# EAGLE library part REGULATOR:ADP3334(1.2V-ADJ,500MA) (library QuantumOptics)
ADR3334, Analog Devices, LDO regulator, 1.178V and up, low Iq, shutdown, SO-8 MSOP-8 etc. http://www.analog.com/UploadedFiles/Data_Sheets/123303984ADP3334_b.pdf
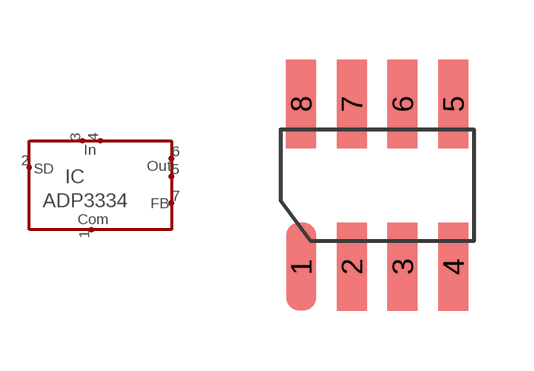
[diagram p44: symbol with the pads of SOIC-8; footprint SOIC-8]

Designator prefix IC

## REGULATOR:ADP3334(1.2V-ADJ,500MA)AR  [SOIC-8]
1  COM
2  SD
3  IN1
4  IN2
5  OUT1
6  OUT2
7  FB

## Footprint SOIC-8 (pad centres in mm)
SOIC-8 (AKA SO-8), pads on 0.050" grid.
smd 0.75 x 2.2: 1 -1.905,-2.032; 2 -0.635,-2.032; 3 0.635,-2.032; 4 1.905,-2.032; 5 1.905,2.032; 6 0.635,2.032; 7 -0.635,2.032; 8 -1.905,2.032